# Altium footprint library Acoustic.PcbLib: 3 footprints
Each footprint in its own frame and in the unit in brackets; x right, y up, seen from the top. Pads: shape width x height; smd on the part's side, far side on the other; paste and mask are expansions set on the pad; w line width, h text height; cw(c..) or ccw(c..) is an arc to the next point about the centre after c.
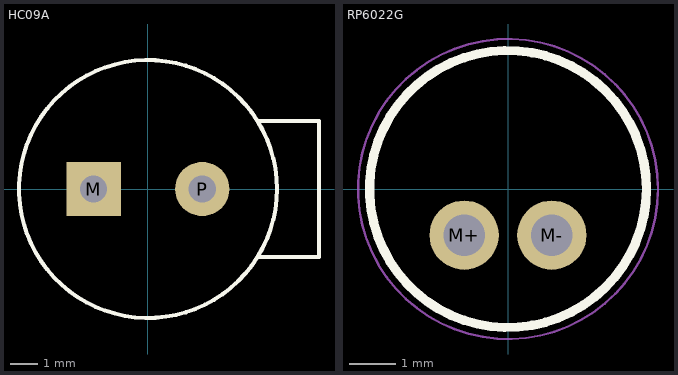
[diagram p0: the footprints below, top view; thin cyan lines are the x and y axes]

## HC09A [mm]
pads (2):
  rect 2x2 hole 1: M(-2,0)
  round 2 hole 1: P(2,0)
Top Overlay:
  circle w0.15: c0,0 r4.75
  lines w0.15: 4.1,-2.5 6.3,-2.5 6.3,2.5 4.1,2.5
3D body "User Library-hc09xxa.step": height 5.02, standoff -2.99, extent -4.75,-4.75 6.25,4.75

## PCBComponent_1 [mm]

## RP6022G [mm] "Microphone"
height 2.2
pads (2):
  round 1.5 hole 0.9 mask+0.1: M+(-0.95,-1) M-(0.95,-1)
Top Overlay:
  circle w0.2: c0,0 r3
Mechanical 15:
  circle w0.05: c0,0 r3.25
3D body "RP6022G.STEP": height 2.4, standoff -1.7, extent -3,-3 3,3